# Altium footprint library PCA9633TK.PcbLib: 3 footprints
Each footprint in its own frame and in the unit in brackets; x right, y up, seen from the top. Pads: shape width x height; smd on the part's side, far side on the other; paste and mask are expansions set on the pad; w line width, h text height; cw(c..) or ccw(c..) is an arc to the next point about the centre after c.
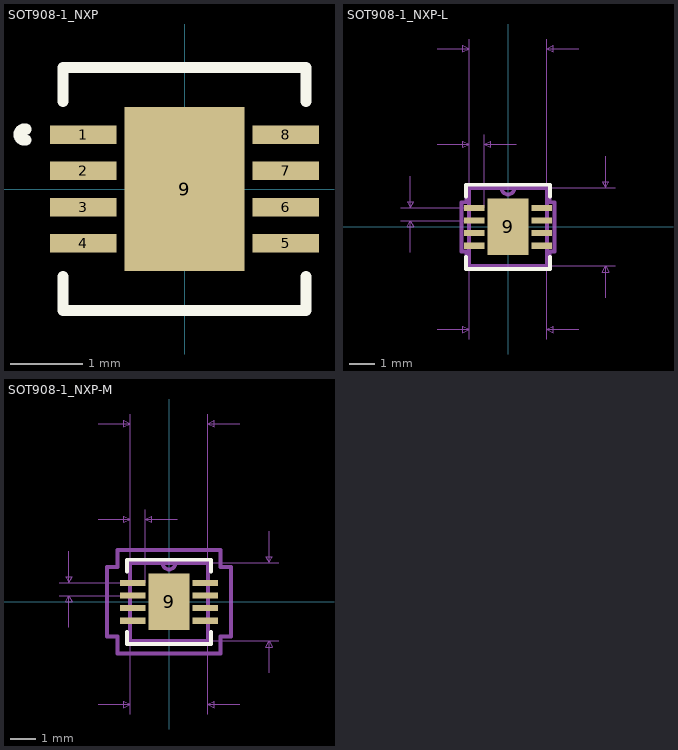
[diagram p0: the footprints below, top view; thin cyan lines are the x and y axes]

## SOT908-1_NXP [mil]
pads (9):
  rect 36x10 smd: 1(-55,29.53) 2(-55,9.84) 3(-55,-9.84) 4(-55,-29.53) 5(55,-29.53) 6(55,-9.84) 7(55,9.84) 8(55,29.53)
  rect 65x89 smd: 9(0,0)
Top Overlay:
  lines w6: -86.1,26.62 cw(c-86.84,29.53) -86.1,32.43 ; -66,-47.63 -66,-66 66,-66 66,-47.63 ; -66,47.63 -66,66 66,66 66,47.63

## SOT908-1_NXP-L [mil]
pads (9):
  rect 32x10 all layers, no hole: 1(-53,29.53) 2(-53,9.84) 3(-53,-9.84) 4(-53,-29.53) 5(53,-29.53) 6(53,-9.84) 7(53,9.84) 8(53,29.53)
  rect 65x89 all layers, no hole: 9(0,0)
Top Overlay:
  lines w6: -66,-47.63 -66,-66 66,-66 66,-47.63 ; -66,47.63 -66,66 66,66 66,47.63
Outline:
  lines w1: -12,61 ccw(c0,61) 12,61 ; -61,-61 -61,61 61,61 61,-61 -61,-61
Courtyard Bottom:
  lines w1: -168,9.84 -53,9.84 ; -168,29.53 -53,29.53 ; -153,-40.16 -153,9.84 ; -153,79.53 -153,29.53 ; -111,-161 -61,-161 ; -111,129.53 -61,129.53 ; -111,279.53 -61,279.53 ; -61,-176 -61,-61 ; -61,144.53 -61,29.53 -61,294.53 ; -37,29.53 -37,144.53 ; 13,129.53 -37,129.53 ; 61,-176 61,-61 168,-61 ; 61,29.53 61,294.53 ; 61,61 168,61 ; 111,-161 61,-161 ; 111,279.53 61,279.53 ; 153,-111 153,-61 ; 153,111 153,61 ; -153,9.84 -148,-0.16 -158,-0.16 -153,9.84 ; -153,29.53 -148,39.53 -158,39.53 -153,29.53 ; -61,-161 -71,-166 -71,-156 -61,-161 ; -61,129.53 -71,124.53 -71,134.53 -61,129.53 ; -61,279.53 -71,274.53 -71,284.53 -61,279.53 ; -37,129.53 -27,124.53 -27,134.53 -37,129.53 ; 61,-161 71,-166 71,-156 61,-161 ; 61,279.53 71,274.53 71,284.53 61,279.53 ; 153,-61 158,-71 148,-71 153,-61 ; 153,61 158,71 148,71 153,61
  lines w6: -10.17,61 ccw(c0,61) 10.17,61 ; -73,-38.53 -65,-38.53 -65,-65 65,-65 65,-38.53 73,-38.53 73,38.53 65,38.53 65,65 -65,65 -65,38.53 -73,38.53 -73,-38.53 ; -61,-61 61,-61 61,61 -61,61 -61,-61
  text "0.122in/3.099mm" at 0,-181 h15.62
  text "0.122in/3.099mm" at 173,0 h15.62
  text "0.02in/0.5mm" at -173,19.68 h15.62
  text "0.02in/0.508mm" at -49,149.53 h15.62
  text "0.122in/3.099mm" at 0,299.53 h15.62
  text "Alt 2 Padstyle: OX90Y60D30P" at 0,-621 h31.25
  text "Alt 1 Padstyle: OX60Y90D30P" at 0,-561 h31.25
  text "Heat Tab Padstyle: RX65Y89D0T" at 0,-441 h31.25
  text "Default Padstyle: RX32Y10D0T" at 0,-381 h31.25

## SOT908-1_NXP-M [mil]
pads (9):
  rect 40x10 all layers, no hole: 1(-57,29.53) 2(-57,9.84) 3(-57,-9.84) 4(-57,-29.53) 5(57,-29.53) 6(57,-9.84) 7(57,9.84) 8(57,29.53)
  rect 65x89 all layers, no hole: 9(0,0)
Top Overlay:
  lines w6: -66,-47.63 -66,-66 66,-66 66,-47.63 ; -66,47.63 -66,66 66,66 66,47.63
Outline:
  lines w1: -12,61 ccw(c0,61) 12,61 ; -61,-61 -61,61 61,61 61,-61 -61,-61
Courtyard Bottom:
  lines w1: -172,9.84 -57,9.84 ; -172,29.53 -57,29.53 ; -157,-40.16 -157,9.84 ; -157,79.53 -157,29.53 ; -111,-161 -61,-161 ; -111,129.53 -61,129.53 ; -111,279.53 -61,279.53 ; -61,-176 -61,-61 ; -61,144.53 -61,29.53 -61,294.53 ; -37,29.53 -37,144.53 ; 13,129.53 -37,129.53 ; 61,-176 61,-61 172,-61 ; 61,29.53 61,294.53 ; 61,61 172,61 ; 111,-161 61,-161 ; 111,279.53 61,279.53 ; 157,-111 157,-61 ; 157,111 157,61 ; -157,9.84 -152,-0.16 -162,-0.16 -157,9.84 ; -157,29.53 -152,39.53 -162,39.53 -157,29.53 ; -61,-161 -71,-166 -71,-156 -61,-161 ; -61,129.53 -71,124.53 -71,134.53 -61,129.53 ; -61,279.53 -71,274.53 -71,284.53 -61,279.53 ; -37,129.53 -27,124.53 -27,134.53 -37,129.53 ; 61,-161 71,-166 71,-156 61,-161 ; 61,279.53 71,274.53 71,284.53 61,279.53 ; 157,-61 162,-71 152,-71 157,-61 ; 157,61 162,71 152,71 157,61
  lines w6: -10.17,61 ccw(c0,61) 10.17,61 ; -97,-54.53 -81,-54.53 -81,-81 81,-81 81,-54.53 97,-54.53 97,54.53 81,54.53 81,81 -81,81 -81,54.53 -97,54.53 -97,-54.53 ; -61,-61 61,-61 61,61 -61,61 -61,-61
  text "0.122in/3.099mm" at 0,-181 h15.62
  text "0.122in/3.099mm" at 177,0 h15.62
  text "0.02in/0.5mm" at -177,19.68 h15.62
  text "0.02in/0.508mm" at -49,149.53 h15.62
  text "0.122in/3.099mm" at 0,299.53 h15.62
  text "Alt 2 Padstyle: OX90Y60D30P" at 0,-621 h31.25
  text "Alt 1 Padstyle: OX60Y90D30P" at 0,-561 h31.25
  text "Heat Tab Padstyle: RX65Y89D0T" at 0,-441 h31.25
  text "Default Padstyle: RX40Y10D0T" at 0,-381 h31.25